# Altium footprint library VioletofSun.PcbLib: 319 footprints (part 1 of 20)
Each footprint in its own frame and in the unit in brackets; x right, y up, seen from the top. Pads: shape width x height; smd on the part's side, far side on the other; paste and mask are expansions set on the pad; w line width, h text height; cw(c..) or ccw(c..) is an arc to the next point about the centre after c.
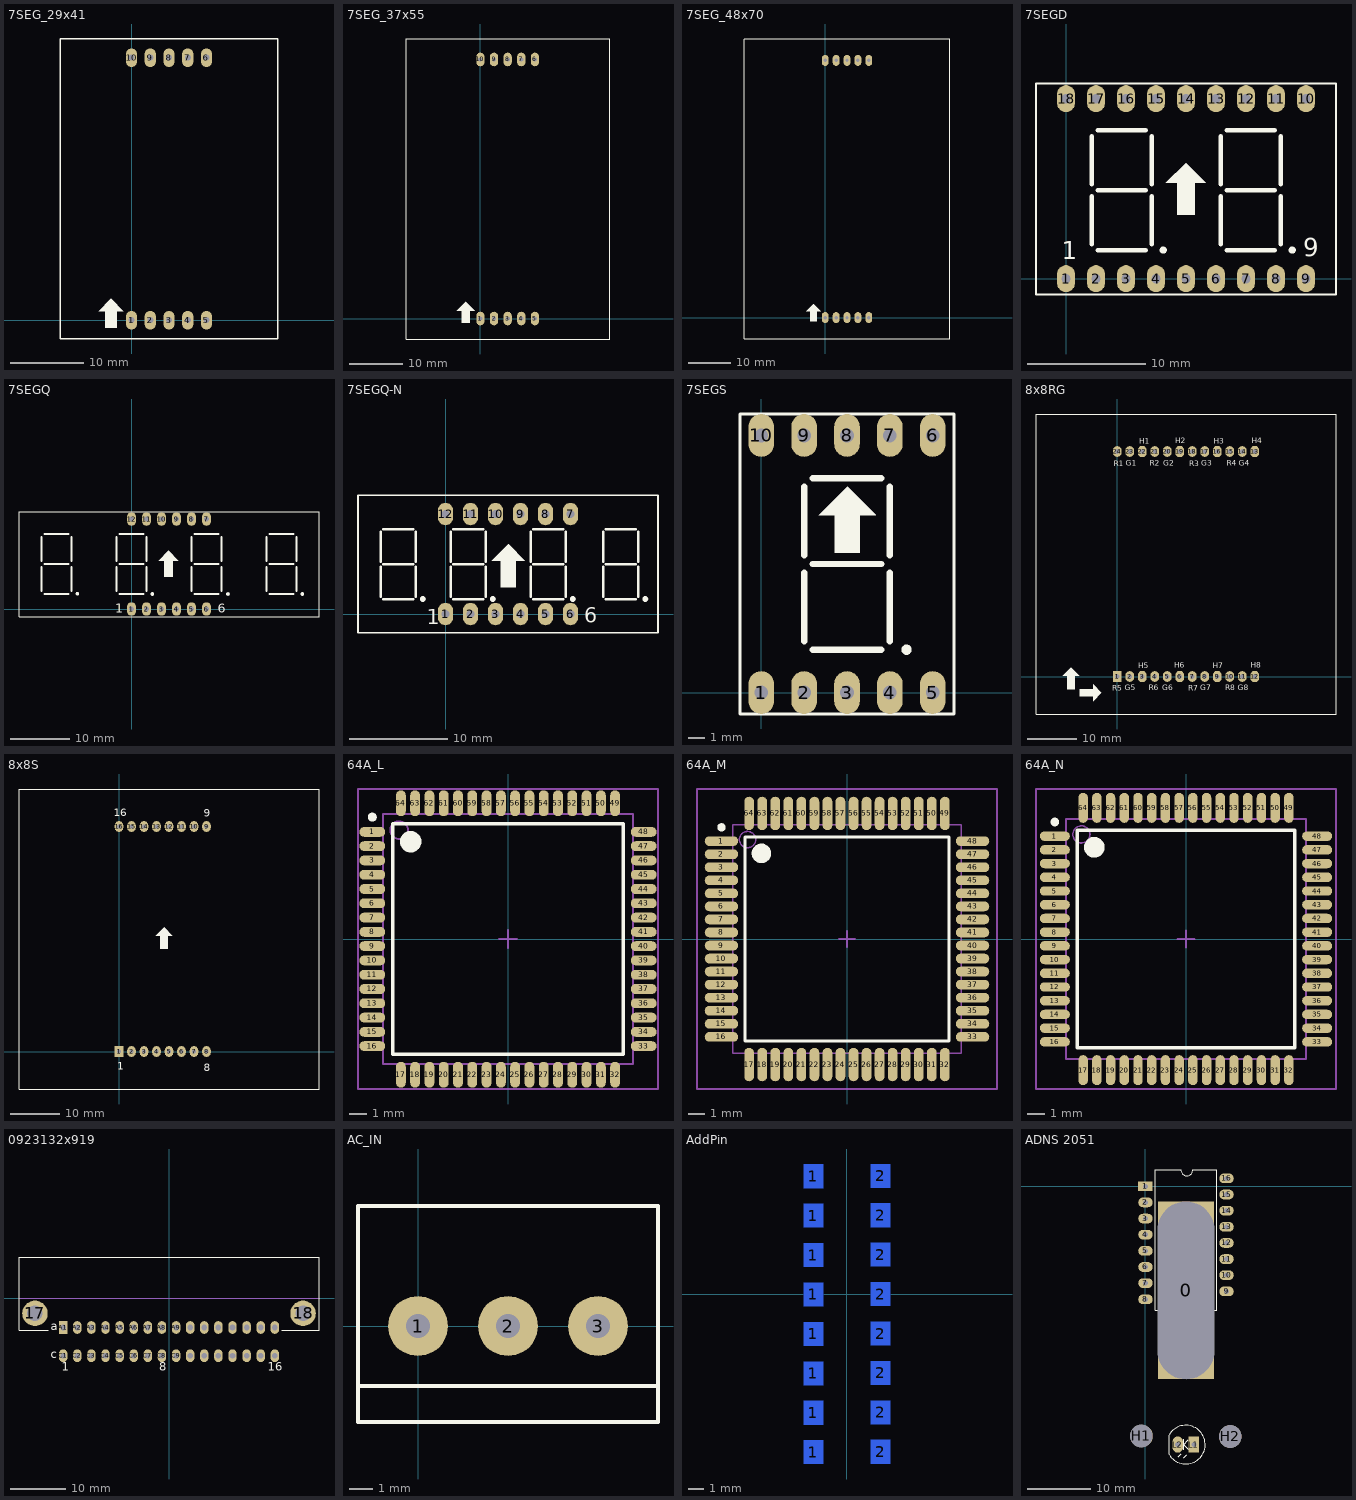
[diagram p0: the footprints below, top view; thin cyan lines are the x and y axes]

## 7SEG_29x41 [mil] "DIP 10 Leads; Body 29 x 41 mm; Pitch 0.5 mm"
height 300
pads (10):
  oval 60x100 hole 32: 1(0,0) 2(100,0) 3(200,0) 4(300,0) 5(400,0) 6(400,1400) 7(300,1400) 8(200,1400) 9(100,1400) 10(0,1400)
Top Overlay:
  region: -176,48 -110,114 -108,114 -43,49 -43,48 -80,48 -80,-40 -139,-40 -139,48
  lines w7: -380,-100 -380,1500 780,1500 780,-100 -380,-100

## 7SEG_37x55 [mil] "DIP 10 Leads; Body 29 x 41 mm; Pitch 0.5 mm"
height 300
pads (10):
  oval 60x100 hole 32: 1(0,0) 2(100,0) 3(200,0) 4(300,0) 5(400,0) 6(400,1900) 7(300,1900) 8(200,1900) 9(100,1900) 10(0,1900)
Top Overlay:
  region: -174,56 -108,122 -106,122 -41,57 -41,56 -78,56 -78,-32 -137,-32 -137,56
  lines w7: -545,-150 -545,2050 950,2050 950,-150 -545,-150

## 7SEG_48x70 [mm] "DIP 10 Leads; Body 47,76 x 70mm; Pitch 0.5 mm"
height 7.62
pads (10):
  oval 1.6x2.54 hole 0.813: 1(0,0) 2(2.54,0) 3(5.08,0) 4(7.62,0) 5(10.16,0) 6(10.16,60) 7(7.62,60) 8(5.08,60) 9(2.54,60) 10(0,60)
Top Overlay:
  region: -4.42,1.422 -2.743,3.099 -2.692,3.099 -1.041,1.448 -1.041,1.422 -1.981,1.422 -1.981,-0.813 -3.48,-0.813 -3.48,1.422
  lines w0.178: -18.92,65 29.08,65 ; -18.92,-5 29.08,-5 -18.92,-5
  lines w0.203: -18.923,-4.928 -18.923,64.999 ; 29.058,-4.928 29.058,64.999

## 7SEGD [mil] "DIP 18Leads; Body 24 x 15 mm; Pitch 0.5 mm"
height 300
pads (18):
  oval 60x90 hole 31 paste+0: 1(0,0) 2(100,0) 3(200,0) 5(400,0) 6(500,0) 7(600,0) 8(700,0) 9(800,0) 10(800,600) 11(700,600) 12(600,600) 13(500,600) 14(400,600) 15(300,600) 16(200,600) 17(100,600) 18(0,600)
  oval 60x90 hole 31: 4(300,0)
Top Overlay:
  circle w12: c754,95 r6
  circle w12: c324,95 r6
  region: 333,319 399,385 401,385 466,320 466,319 429,319 429,213 370,213 370,319
  lines w7: -100,-52.5 -100,650 ; -100,-52.5 -100,650 ; -100,-52.5 -100,650 ; -100,-52.5 -100,650 ; -100,650 900,650 ; -100,650 900,650 ; -100,650 900,650 ; -100,650 900,650 ; 900,-52.5 -100,-52 900,-52.5 ; 900,-52.5 900,650 ; 900,-52.5 900,650 ; 900,-52.5 900,650 ; 900,-52.5 900,650
  lines w15: 85,115 85,275 ; 85,115 85,275 ; 85,115 85,275 ; 85,115 85,275 ; 85,115 85,275 ; 85,115 85,275 ; 85,115 85,275 ; 85,115 85,275 ; 85,315 85,475 ; 85,315 85,475 ; 85,315 85,475 ; 85,315 85,475 ; 85,315 85,475 ; 85,315 85,475 ; 85,315 85,475 ; 85,315 85,475 ; 105,95 265,95 ; 105,95 265,95 ; 105,95 265,95 ; 105,95 265,95 ; 105,295 265,295 ; 105,295 265,295 ; 105,295 265,295 ; 105,295 265,295 ; 105,295 265,295 ; 105,295 265,295 ; 105,295 265,295 ; 105,295 265,295 ; 105,495 265,495 ; 105,495 265,495 ; 105,495 265,495 ; 105,495 265,495 ; 285,115 285,275 ; 285,115 285,275 ; 285,115 285,275 ; 285,115 285,275 ; 285,115 285,275 ; 285,115 285,275 ; 285,115 285,275 ; 285,115 285,275 ; 285,315 285,475 ; 285,315 285,475 ; 285,315 285,475 ; 285,315 285,475 ; 285,315 285,475 ; 285,315 285,475 ; 285,315 285,475 ; 285,315 285,475 ; 515,115 515,275 ; 515,115 515,275 ; 515,115 515,275 ; 515,115 515,275 ; 515,115 515,275 ; 515,115 515,275 ; 515,115 515,275 ; 515,115 515,275 ; 515,315 515,475 ; 515,315 515,475 ; 515,315 515,475 ; 515,315 515,475 ; 515,315 515,475 ; 515,315 515,475 ; 515,315 515,475 ; 515,315 515,475 ; 535,95 695,95 ; 535,95 695,95 ; 535,95 695,95 ; 535,95 695,95 ; 535,295 695,295 ; 535,295 695,295 ; 535,295 695,295 ; 535,295 695,295 ; 535,295 695,295 ; 535,295 695,295 ; 535,295 695,295 ; 535,295 695,295 ; 535,495 695,495 ; 535,495 695,495 ; 535,495 695,495 ; 535,495 695,495 ; 715,115 715,275 ; 715,115 715,275 ; 715,115 715,275 ; 715,115 715,275 ; 715,115 715,275 ; 715,115 715,275 ; 715,115 715,275 ; 715,115 715,275 ; 715,315 715,475 ; 715,315 715,475 ; 715,315 715,475 ; 715,315 715,475 ; 715,315 715,475 ; 715,315 715,475 ; 715,315 715,475 ; 715,315 715,475
  text "1" at -14,65 h60
  text "9" at 790,75 h60
3D body: height 283.66, standoff -120, extent -24.88,30 864.88,585.12

## 7SEGQ [mil] "DIP 12 Leads; Body 48 x 20 mm; Pitch 0.5 mm"
height 300
pads (12):
  oval 60x90 hole 31: 1(0,0) 2(100,0) 3(200,0) 4(300,0) 5(400,0) 6(500,0) 7(500,600) 8(400,600) 9(300,600) 10(200,600) 11(100,600) 12(0,600)
Top Overlay:
  drawing of 155 lines, arcs and shapes, not listed
  text "6" at 575,-26 h60
  text "1" at -108,-24 h60

## 7SEGQ-N [mil] "DIP 12 Leads; Body 32x 15 mm; Pitch 0.5 mm"
height 300
pads (12):
  oval 60x90 hole 31: 1(0,0) 2(100,0) 3(200,0) 4(300,0) 5(400,0) 6(500,0) 7(500,400) 8(400,400) 9(300,400) 10(200,400) 11(100,400) 12(0,400)
Top Overlay:
  circle w12: c509,60 r6
  circle w12: c799,60 r6
  circle w12: c-91,60 r6
  circle w12: c189,60 r6
  region: 184,213 250,279 252,279 317,214 317,213 280,213 280,107 221,107 221,213
  lines w7: -350,-75 -350,475 850,475 850,-75 -350,-75
  lines w10: -260,70 -260,190 ; -260,210 -260,330 ; -250,60 -130,60 ; -250,340 -130,340 ; -120,70 -120,190 ; -120,210 -120,330 ; 20,70 20,190 ; 20,210 20,330 ; 30,60 150,60 ; 30,340 150,340 ; 160,70 160,190 ; 160,210 160,330 ; 340,70 340,190 ; 340,210 340,330 ; 350,60 470,60 ; 350,340 470,340 ; 480,70 480,190 ; 480,210 480,330 ; 630,70 630,190 ; 630,210 630,330 ; 640,60 760,60 ; 640,340 760,340 ; 770,70 770,190 ; 770,210 770,330 ; -250,200 -130,200 -250,200 ; 30,200 150,200 30,200 ; 350,200 470,200 350,200 ; 640,200 760,200 640,200
  text "1" at -75,-40 h60
  text "6" at 555,-35 h60
3D body: height 238, standoff -98, extent -335.5,-70 865.5,450

## 7SEGS [mil] "DIP 10 Leads; Body 12 x 15 mm; Pitch 0.5 mm"
height 300
pads (10):
  oval 60x100 hole 32: 1(0,0) 2(100,0) 3(200,0) 4(300,0) 5(400,0) 6(400,600) 7(300,600) 8(200,600) 9(100,600) 10(0,600)
Top Overlay:
  circle w12: c339,100 r6
  region: 134,414 200,480 202,480 267,415 267,414 230,414 230,326 171,326 171,414
  lines w7: -50,-50 450,-50 450,650 -50,650 -50,-50
  lines w15: 100,120 100,280 ; 100,120 100,280 ; 100,120 100,280 ; 100,120 100,280 ; 100,120 100,280 ; 100,120 100,280 ; 100,120 100,280 ; 100,120 100,280 ; 100,320 100,480 ; 100,320 100,480 ; 100,320 100,480 ; 100,320 100,480 ; 100,320 100,480 ; 100,320 100,480 ; 100,320 100,480 ; 100,320 100,480 ; 120,100 280,100 ; 120,100 280,100 ; 120,100 280,100 ; 120,100 280,100 ; 120,300 280,300 ; 120,300 280,300 ; 120,300 280,300 ; 120,300 280,300 ; 120,300 280,300 ; 120,300 280,300 ; 120,300 280,300 ; 120,300 280,300 ; 120,500 280,500 ; 120,500 280,500 ; 120,500 280,500 ; 120,500 280,500 ; 300,120 300,280 ; 300,120 300,280 ; 300,120 300,280 ; 300,120 300,280 ; 300,120 300,280 ; 300,120 300,280 ; 300,120 300,280 ; 300,120 300,280 ; 300,320 300,480 ; 300,320 300,480 ; 300,320 300,480 ; 300,320 300,480 ; 300,320 300,480 ; 300,320 300,480 ; 300,320 300,480 ; 300,320 300,480
3D body: height 316.25, standoff -156.19, extent -50,-75 450,675

## 8x8RG [mil] "Matran 8x8 2mau,Body 60 X 60mm"
height 300
pads (24):
  rect 70x85 hole 37.4: 1(0,0)
  oval 70x85 hole 37.4: 2(100,0) 4(300,0) 5(400,0) 7(600,0) 8(700,0) 10(900,0) 11(1000,0) 14(1000,1800) 15(900,1800) 17(700,1800) 18(600,1800) 20(400,1800) 21(300,1800) 23(100,1800) 24(0,1800)
  oct 70x85 hole 37.4: 3(200,0) 6(500,0) 9(800,0) 12(1100,0) 13(1100,1800) 16(800,1800) 19(500,1800) 22(200,1800)
Top Overlay:
  region: -193,-63 -127,-129 -127,-131 -192,-196 -193,-196 -193,-159 -299,-159 -299,-100 -193,-100
  region: -437,5 -371,71 -369,71 -304,6 -304,5 -341,5 -341,-101 -400,-101 -400,5
  lines w7: -650,-300 -650,2100 ; -650,-300 -650,2100 ; -650,-300 1750,-300 ; -650,2100 1750,2100 ; 1750,-300 1750,2100 ; 1750,-300 1750,2100
  text "R4" at 874,1685 h45
  text "G4" at 970,1686 h45
  text "H4" at 1076,1865 h45
  text "R3" at 576,1684 h45
  text "G3" at 672,1685 h45
  text "H3" at 773,1864 h45
  text "R2" at 258,1685 h45
  text "G2" at 366,1685 h45
  text "H2" at 464,1865 h45
  text "H1" at 174,1864 h45
  text "G1" at 68,1685 h45
  text "R1" at -28,1684 h45
  text "R5" at -40,-112 h45
  text "G5" at 60,-111 h45
  text "H5" at 166,68 h45
  text "H6" at 456,69 h45
  text "G6" at 358,-111 h45
  text "R6" at 250,-111 h45
  text "H7" at 765,68 h45
  text "G7" at 664,-111 h45
  text "R7" at 568,-112 h45
  text "H8" at 1068,69 h45
  text "G8" at 962,-110 h45
  text "R8" at 863,-111 h45
Bottom Overlay:
  text "R4" at 943,1685 h45
  text "G4" at 1039,1686 h45
  text "H4" at 1145,1865 h45
  text "R3" at 645,1684 h45
  text "G3" at 741,1685 h45
  text "H3" at 842,1864 h45
  text "R2" at 327,1685 h45
  text "G2" at 435,1685 h45
  text "H2" at 533,1865 h45
  text "H1" at 243,1864 h45
  text "G1" at 137,1685 h45
  text "R1" at 41,1684 h45
  text "R5" at 29,-112 h45
  text "G5" at 129,-111 h45
  text "H5" at 235,68 h45
  text "H6" at 525,69 h45
  text "G6" at 427,-111 h45
  text "R6" at 319,-111 h45
  text "H7" at 834,68 h45
  text "G7" at 733,-111 h45
  text "R7" at 637,-112 h45
  text "H8" at 1137,69 h45
  text "G8" at 1031,-110 h45
  text "R8" at 932,-111 h45

## 8x8S [mil] "Matran 8x8, Body 60 X 60mm"
height 300
pads (16):
  rect 70x85 hole 31: 1(0,0)
  oval 70x85 hole 31: 2(100,0) 3(200,0) 4(300,0) 5(400,0) 6(500,0) 7(600,0) 8(700,0) 9(700,1800) 10(600,1800) 11(500,1800) 12(400,1800) 13(300,1800) 14(200,1800) 15(100,1800) 16(0,1800)
Top Overlay:
  region: 294,927 360,993 362,993 427,928 427,927 390,927 390,821 331,821 331,927
  lines w7: -800,-300 -800,2100 ; -800,-300 -800,2100 ; -800,-300 1600,-300 ; -800,-300 1600,-300 ; -800,2100 1600,2100 ; -800,2100 1600,2100 ; 1600,-300 1600,2100 ; 1600,-300 1600,2100
  text "16" at -42,1881 h60
  text "9" at 679,1880 h60
  text "8" at 678,-156 h60
  text "1" at -15,-144 h60

## 64A_L [mm] "Thin QFP, 64-Leads, Body 14x14mm, Pitch 0.8mm, IPC High Density"
height 1.2
pads (64):
  oval 1.45x0.55 smd: 1(-7.6,6) 2(-7.6,5.2) 3(-7.6,4.4) 4(-7.6,3.6) 5(-7.6,2.8) 6(-7.6,2) 7(-7.6,1.2) 8(-7.6,0.4) 9(-7.6,-0.4) 10(-7.6,-1.2) 11(-7.6,-2) 12(-7.6,-2.8) 13(-7.6,-3.6) 14(-7.6,-4.4) 15(-7.6,-5.2) 16(-7.6,-6) 33(7.6,-6) 34(7.6,-5.2) 35(7.6,-4.4) 36(7.6,-3.6) 37(7.6,-2.8) 38(7.6,-2) 39(7.6,-1.2) 40(7.6,-0.4) 41(7.6,0.4) 42(7.6,1.2) 43(7.6,2) 44(7.6,2.8) 45(7.6,3.6) 46(7.6,4.4) 47(7.6,5.2) 48(7.6,6)
  oval 0.55x1.45 smd: 17(-6,-7.6) 18(-5.2,-7.6) 19(-4.4,-7.6) 20(-3.6,-7.6) 21(-2.8,-7.6) 22(-2,-7.6) 23(-1.2,-7.6) 24(-0.4,-7.6) 25(0.4,-7.6) 26(1.2,-7.6) 27(2,-7.6) 28(2.8,-7.6) 29(3.6,-7.6) 30(4.4,-7.6) 31(5.2,-7.6) 32(6,-7.6) 49(6,7.6) 50(5.2,7.6) 51(4.4,7.6) 52(3.6,7.6) 53(2.8,7.6) 54(2,7.6) 55(1.2,7.6) 56(0.4,7.6) 57(-0.4,7.6) 58(-1.2,7.6) 59(-2,7.6) 60(-2.8,7.6) 61(-3.6,7.6) 62(-4.4,7.6) 63(-5.2,7.6) 64(-6,7.6)
Top Overlay:
  circle w0.25: c-7.6,6.825 r0.125
  circle w0.6: c-5.45,5.45 r0.3
  lines w0.2: -6.45,-6.45 -6.45,6.45 6.45,6.45 6.45,-6.45 -6.45,-6.45
Mechanical 13:
  circle w0.1: c-6.1,6.1 r0.5
  lines w0.1: -7,-7 -7,7 7,7 7,-7 -7,-7
Mechanical 15:
  lines w0.1: -0.5,0 0.5,0 ; 0,-0.5 0,0.5 ; -8.4,-8.4 -8.4,8.4 8.4,8.4 8.4,-8.4 -8.4,-8.4
3D body: height 1.2, standoff 0, extent -7,-7 7,7

## 64A_M [mm] "Thin QFP, 64-Leads, Body 14x14mm, Pitch 0.8mm, IPC Low Density"
height 1.2
pads (64):
  oval 2.05x0.6 smd: 1(-7.7,6) 2(-7.7,5.2) 3(-7.7,4.4) 4(-7.7,3.6) 5(-7.7,2.8) 6(-7.7,2) 7(-7.7,1.2) 8(-7.7,0.4) 9(-7.7,-0.4) 10(-7.7,-1.2) 11(-7.7,-2) 12(-7.7,-2.8) 13(-7.7,-3.6) 14(-7.7,-4.4) 15(-7.7,-5.2) 16(-7.7,-6) 33(7.7,-6) 34(7.7,-5.2) 35(7.7,-4.4) 36(7.7,-3.6) 37(7.7,-2.8) 38(7.7,-2) 39(7.7,-1.2) 40(7.7,-0.4) 41(7.7,0.4) 42(7.7,1.2) 43(7.7,2) 44(7.7,2.8) 45(7.7,3.6) 46(7.7,4.4) 47(7.7,5.2) 48(7.7,6)
  oval 0.6x2.05 smd: 17(-6,-7.7) 18(-5.2,-7.7) 19(-4.4,-7.7) 20(-3.6,-7.7) 21(-2.8,-7.7) 22(-2,-7.7) 23(-1.2,-7.7) 24(-0.4,-7.7) 25(0.4,-7.7) 26(1.2,-7.7) 27(2,-7.7) 28(2.8,-7.7) 29(3.6,-7.7) 30(4.4,-7.7) 31(5.2,-7.7) 32(6,-7.7) 49(6,7.7) 50(5.2,7.7) 51(4.4,7.7) 52(3.6,7.7) 53(2.8,7.7) 54(2,7.7) 55(1.2,7.7) 56(0.4,7.7) 57(-0.4,7.7) 58(-1.2,7.7) 59(-2,7.7) 60(-2.8,7.7) 61(-3.6,7.7) 62(-4.4,7.7) 63(-5.2,7.7) 64(-6,7.7)
Top Overlay:
  circle w0.25: c-7.7,6.85 r0.125
  circle w0.6: c-5.25,5.25 r0.3
  lines w0.2: -6.25,-6.25 -6.25,6.25 6.25,6.25 6.25,-6.25 -6.25,-6.25
Mechanical 13:
  circle w0.1: c-6.1,6.1 r0.5
  lines w0.1: -7,-7 -7,7 7,7 7,-7 -7,-7
Mechanical 15:
  lines w0.1: -0.5,0 0.5,0 ; 0,-0.5 0,0.5 ; -9.2,-9.2 -9.2,9.2 9.2,9.2 9.2,-9.2 -9.2,-9.2
3D body: height 1.2, standoff 0, extent -7,-7 7,7

## 64A_N [mm] "Thin QFP, 64-Leads, Body 14x14mm, Pitch 0.8mm, IPC Medium Density"
height 1.2
pads (64):
  oval 1.75x0.55 smd: 1(-7.65,6) 2(-7.65,5.2) 3(-7.65,4.4) 4(-7.65,3.6) 5(-7.65,2.8) 6(-7.65,2) 7(-7.65,1.2) 8(-7.65,0.4) 9(-7.65,-0.4) 10(-7.65,-1.2) 11(-7.65,-2) 12(-7.65,-2.8) 13(-7.65,-3.6) 14(-7.65,-4.4) 15(-7.65,-5.2) 16(-7.65,-6) 33(7.65,-6) 34(7.65,-5.2) 35(7.65,-4.4) 36(7.65,-3.6) 37(7.65,-2.8) 38(7.65,-2) 39(7.65,-1.2) 40(7.65,-0.4) 41(7.65,0.4) 42(7.65,1.2) 43(7.65,2) 44(7.65,2.8) 45(7.65,3.6) 46(7.65,4.4) 47(7.65,5.2) 48(7.65,6)
  oval 0.55x1.75 smd: 17(-6,-7.65) 18(-5.2,-7.65) 19(-4.4,-7.65) 20(-3.6,-7.65) 21(-2.8,-7.65) 22(-2,-7.65) 23(-1.2,-7.65) 24(-0.4,-7.65) 25(0.4,-7.65) 26(1.2,-7.65) 27(2,-7.65) 28(2.8,-7.65) 29(3.6,-7.65) 30(4.4,-7.65) 31(5.2,-7.65) 32(6,-7.65) 49(6,7.65) 50(5.2,7.65) 51(4.4,7.65) 52(3.6,7.65) 53(2.8,7.65) 54(2,7.65) 55(1.2,7.65) 56(0.4,7.65) 57(-0.4,7.65) 58(-1.2,7.65) 59(-2,7.65) 60(-2.8,7.65) 61(-3.6,7.65) 62(-4.4,7.65) 63(-5.2,7.65) 64(-6,7.65)
Top Overlay:
  circle w0.25: c-7.65,6.825 r0.125
  circle w0.6: c-5.35,5.35 r0.3
  lines w0.2: -6.35,-6.35 -6.35,6.35 6.35,6.35 6.35,-6.35 -6.35,-6.35
Mechanical 13:
  circle w0.1: c-6.1,6.1 r0.5
  lines w0.1: -7,-7 -7,7 7,7 7,-7 -7,-7
Mechanical 15:
  lines w0.1: -0.5,0 0.5,0 ; 0,-0.5 0,0.5 ; -8.75,-8.75 -8.75,8.75 8.75,8.75 8.75,-8.75 -8.75,-8.75
3D body: height 1.2, standoff 0, extent -7,-7 7,7

## 0923132x919 [mm] "Connector; DIN 41612, Type 2C, Thru-Hole; Rows a+c, 32 Position; Right Angle"
height 11.1
pads (34):
  round 4.6 hole 2.8: 17(-24.13,-2.76) 18(24.13,-2.76)
  rect 1.524x2.286 hole 1: A1(-19.05,-5.3)
  oval 1.524x2.286 hole 1: A2(-16.51,-5.3) A3(-13.97,-5.3) A4(-11.43,-5.3) A5(-8.89,-5.3) A6(-6.35,-5.3) A7(-3.81,-5.3) A8(-1.27,-5.3) A9(1.27,-5.3) A10(3.81,-5.3) A11(6.35,-5.3) A12(8.89,-5.3) A13(11.43,-5.3) A14(13.97,-5.3) A15(16.51,-5.3) A16(19.05,-5.3) C1(-19.05,-10.38) C2(-16.51,-10.38) C3(-13.97,-10.38) C4(-11.43,-10.38) C5(-8.89,-10.38) C6(-6.35,-10.38) C7(-3.81,-10.38) C8(-1.27,-10.38) C9(1.27,-10.38) C10(3.81,-10.38) C11(6.35,-10.38) C12(8.89,-10.38) C13(11.43,-10.38) C14(13.97,-10.38) C15(16.51,-10.38) C16(19.05,-10.38)
Top Overlay:
  lines w0.2: -21.75,-5.8 -27,-5.8 -27,7.34 27,7.34 27,-5.8 20.275,-5.8
  text "1" at -19.3,-13.08 h1.5
  text "a" at -21.26,-5.8 h1.5
  text "c" at -21.26,-10.88 h1.5
  text "8" at -1.77,-13.08 h1.5
  text "16" at 17.8,-13.08 h1.5
Mechanical 1:
  lines w0.1: -27,0 27,0
  text "PCB Edge" at -26.15,0.5 h0.6

## AC_IN [mil] "AC_Input"
height 3
pads (3):
  round 100 hole 40 square: 1(0,0) 2(150,0) 3(300,0)
Top Overlay:
  lines w7: -100,-100 400,-100 ; -100,-160 -100,200 400,200 400,-160 -100,-160

## AddPin [mil] "Add"
pads (16):
  rect 50x60 smd far side: 1(-84,-400) 1(-84,-300) 1(-84,-200) 1(-84,-100) 1(-84,0) 1(-84,100) 1(-84,200) 1(-84,300) 2(86,-399) 2(86,-299) 2(86,-199) 2(86,-99) 2(86,1) 2(86,101) 2(86,201) 2(86,301)

## ADNS 2051 [mil] "Foots pin for Mouse"
pads (21):
  rect 350x1100 hole 350 slot 1100 at 90 deg: 0(251,-645)
  rect 90x60 hole 31: 1(0,0)
  oval 90x60 hole 31: 2(0,-100) 3(0,-200) 4(0,-300) 5(0,-400) 6(0,-500) 7(0,-600) 8(0,-700) 9(502,-651) 10(502,-551) 11(502,-451) 12(502,-351) 13(502,-251) 14(502,-151) 15(502,-51) 16(502,49)
  round 140 hole 140: H1(-25,-1547) H2(525,-1550)
  rect 65x100 hole 32: L1(300,-1600.5)
  oval 65x100 hole 32: L2(200,-1600.5)
Top Overlay:
  lines w7: 146,-1660.5 146,-1541.5 ; 146.06,-1540.53 cw(c250,-1600.5) 146.49,-1661.21 ; 204,-1675.5 221,-1658.5 ; 218,103 59,103 59,-767 443,-767 443,103 296,103 ; 218.97,101 ccw(c255.99,101) 293,101 ; 236,-1632.5 236,-1566.5 ; 238,-1681.5 255,-1664.5 ; 265,-1629.5 236,-1600.5 265,-1571.5 ; 394.94,-516.95 ccw(c252.8,-525.96) 395,-518
  text "ADNS2051" at 108,-229 h40